# EAGLE library part BQ24315 (library tmxk)
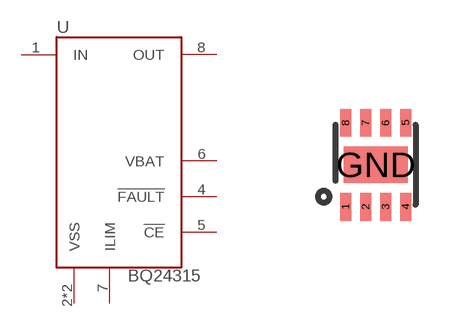
[diagram p30: symbol with the pads of QFN8-DSG; footprint QFN8-DSG]

Designator prefix U

## BQ24315  [QFN8-DSG]
1  IN
2  VSS
4  !FAULT
5  !CE
6  VBAT
7  ILIM
8  OUT
GND  VSS

## Footprint QFN8-DSG (pad centres in mm)
smd 0.28 x 0.7: 1 -0.75,-1.05; 2 -0.25,-1.05; 3 0.25,-1.05; 4 0.75,-1.05; 5 0.75,1.05; 6 0.25,1.05; 7 -0.25,1.05; 8 -0.75,1.05
smd 1.6 x 0.9: GND 0,0